# Altium integrated library bornera.IntLib: 1 symbol
Pins are listed as number, name and electrical type; pins without a type are passive.

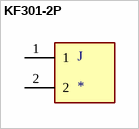
[diagram p0: symbol KF301-2P]

## KF301-2P
designator J
2 Pin Terminal Block 5mm Pitch; MP: KF301-2P; MF: Handson Technology; Availability: Unavailable; Price: None; Value: *; SnapEDA_Link: https://www.snapeda.com/parts/KF301-2P/Handson%20Technology/view-part/4276957/?ref=snap; Package: Package
footprint HANDSON_KF301-2P
pins: 1, 2